# Altium schematic symbol library LTC1751EMS8-5#PBF.SchLib: 1 symbol
Pins are listed as number, name and electrical type; pins without a type are passive.

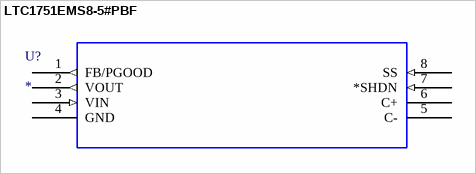
[diagram p0: symbol LTC1751EMS8-5#PBF]

## LTC1751EMS8-5#PBF
designator U?
MF: {'manufacturer': u'Analog Devices Inc.'}; MP: LTC1751EMS8-5#PBF; Package: None; Price: None; Value: *; Availability: Unavailable
footprint MSOP-8_MS
pins: 1 FB/PGOOD (out), 2 VOUT (out), 3 VIN (in), 4 GND (power), 5 C-, 6 C+, 7 *SHDN (in), 8 SS (in)